# EAGLE library part 7SEG (library densikit)
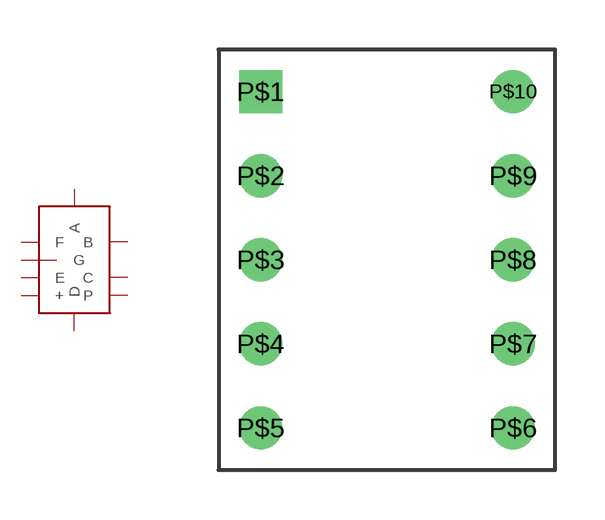
[diagram p14: symbol with the pads of 7SEG-0.4INCH; footprint 7SEG-0.4INCH]

Designator prefix 7SEG

## 7SEG-0.39"13MM  [7SEG-0.4INCH]
P$1  +
P$2  F
P$3  G
P$4  E
P$5  D
P$6  +
P$7  P
P$8  C
P$9  B
P$10  A

## Footprint 7SEG-0.4INCH (pad centres in mm)
drill 0.8 square: P$1 -3.94,5.14
drill 0.8: P$2 -3.94,2.6; P$3 -3.94,0.06; P$4 -3.94,-2.48; P$5 -3.94,-5.02; P$6 3.68,-5.02; P$7 3.68,-2.48; P$8 3.68,0.06; P$9 3.68,2.6; P$10 3.68,5.14